# Altium schematic symbol library TI-TLVM13640.SchLib: 1 symbol
Pins are listed as number, name and electrical type; pins without a type are passive.

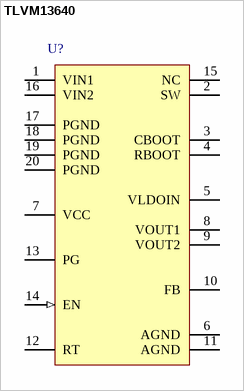
[diagram p0: symbol TLVM13640]

## TLVM13640
designator U?
pins: 1 VIN1 (power), 2 SW, 3 CBOOT, 4 RBOOT, 5 VLDOIN (power), 6 AGND (power), 7 VCC (power), 8 VOUT1 (power), 9 VOUT2 (power), 10 FB, 11 AGND (power), 12 RT, 13 PG (oc), 14 EN (in), 15 NC, 16 VIN2 (power), 17 PGND (power), 18 PGND (power), 19 PGND (power), 20 PGND (power)